# EAGLE library part 532955-6 (library con-amp)
PCB Connector
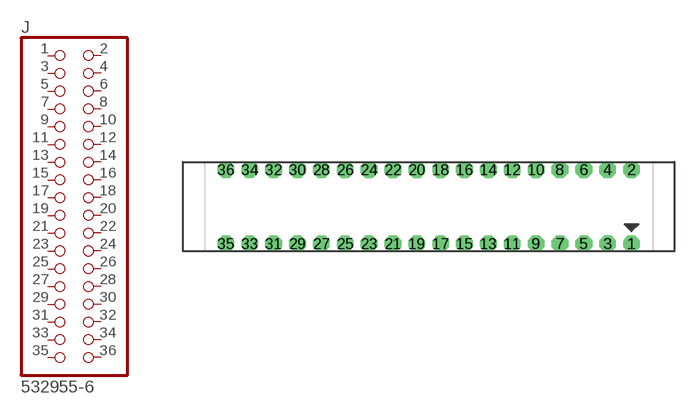
[diagram p132: symbol with the pads of 532955-6; footprint 532955-6]

Designator prefix J

## 532955-6  [532955-6]
1  1  pas
2  2  pas
3  3  pas
4  4  pas
5  5  pas
6  6  pas
7  7  pas
8  8  pas
9  9  pas
10  10  pas
11  11  pas
12  12  pas
13  13  pas
14  14  pas
15  15  pas
16  16  pas
17  17  pas
18  18  pas
19  19  pas
20  20  pas
21  21  pas
22  22  pas
23  23  pas
24  24  pas
25  25  pas
26  26  pas
27  27  pas
28  28  pas
29  29  pas
30  30  pas
31  31  pas
32  32  pas
33  33  pas
34  34  pas
35  35  pas
36  36  pas

## Footprint 532955-6 (pad centres in mm)
PCB Connector 36 Pin Female Receptacal, 2x18, 0.1" spacing
drill 1.016 pad 1.778 octagon: 1 19.05,-3.937; 2 19.05,3.937; 3 16.51,-3.937; 4 16.51,3.937; 5 13.97,-3.937; 6 13.97,3.937; 7 11.43,-3.937; 8 11.43,3.937; 9 8.89,-3.937; 10 8.89,3.937; 11 6.35,-3.937; 12 6.35,3.937; 13 3.81,-3.937; 14 3.81,3.937; 15 1.27,-3.937; 16 1.27,3.937; 17 -1.27,-3.937; 18 -1.27,3.937; 19 -3.81,-3.937; 20 -3.81,3.937; 21 -6.35,-3.937; 22 -6.35,3.937; 23 -8.89,-3.937; 24 -8.89,3.937; 25 -11.43,-3.937; 26 -11.43,3.937; 27 -13.97,-3.937; 28 -13.97,3.937; 29 -16.51,-3.937; 30 -16.51,3.937; 31 -19.05,-3.937; 32 -19.05,3.937; 33 -21.59,-3.937; 34 -21.59,3.937; 35 -24.13,-3.937; 36 -24.13,3.937